# Altium schematic symbol library SCH - POWER - LINEAR VREG - TI TPS70358M_HKH_20.SchLib: 1 symbol
Pins are listed as number, name and electrical type; pins without a type are passive.

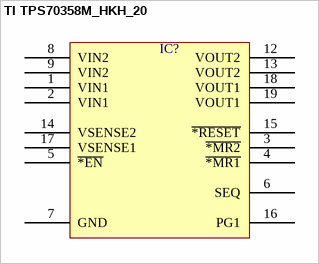
[diagram p0: symbol TI TPS70358M_HKH_20]

## TI TPS70358M_HKH_20
designator IC?  (value not drawn)
pins: 1 VIN1, 2 VIN1, 3 ~{*MR2}, 4 ~{*MR1}, 5 ~{*EN}, 6 SEQ, 7 GND, 8 VIN2, 9 VIN2, 12 VOUT2, 13 VOUT2, 14 VSENSE2, 15 ~{*RESET}, 16 PG1, 17 VSENSE1, 18 VOUT1, 19 VOUT1